# Altium integrated library NSC Switcher.IntLib: 916 symbols (part 17 of 23)
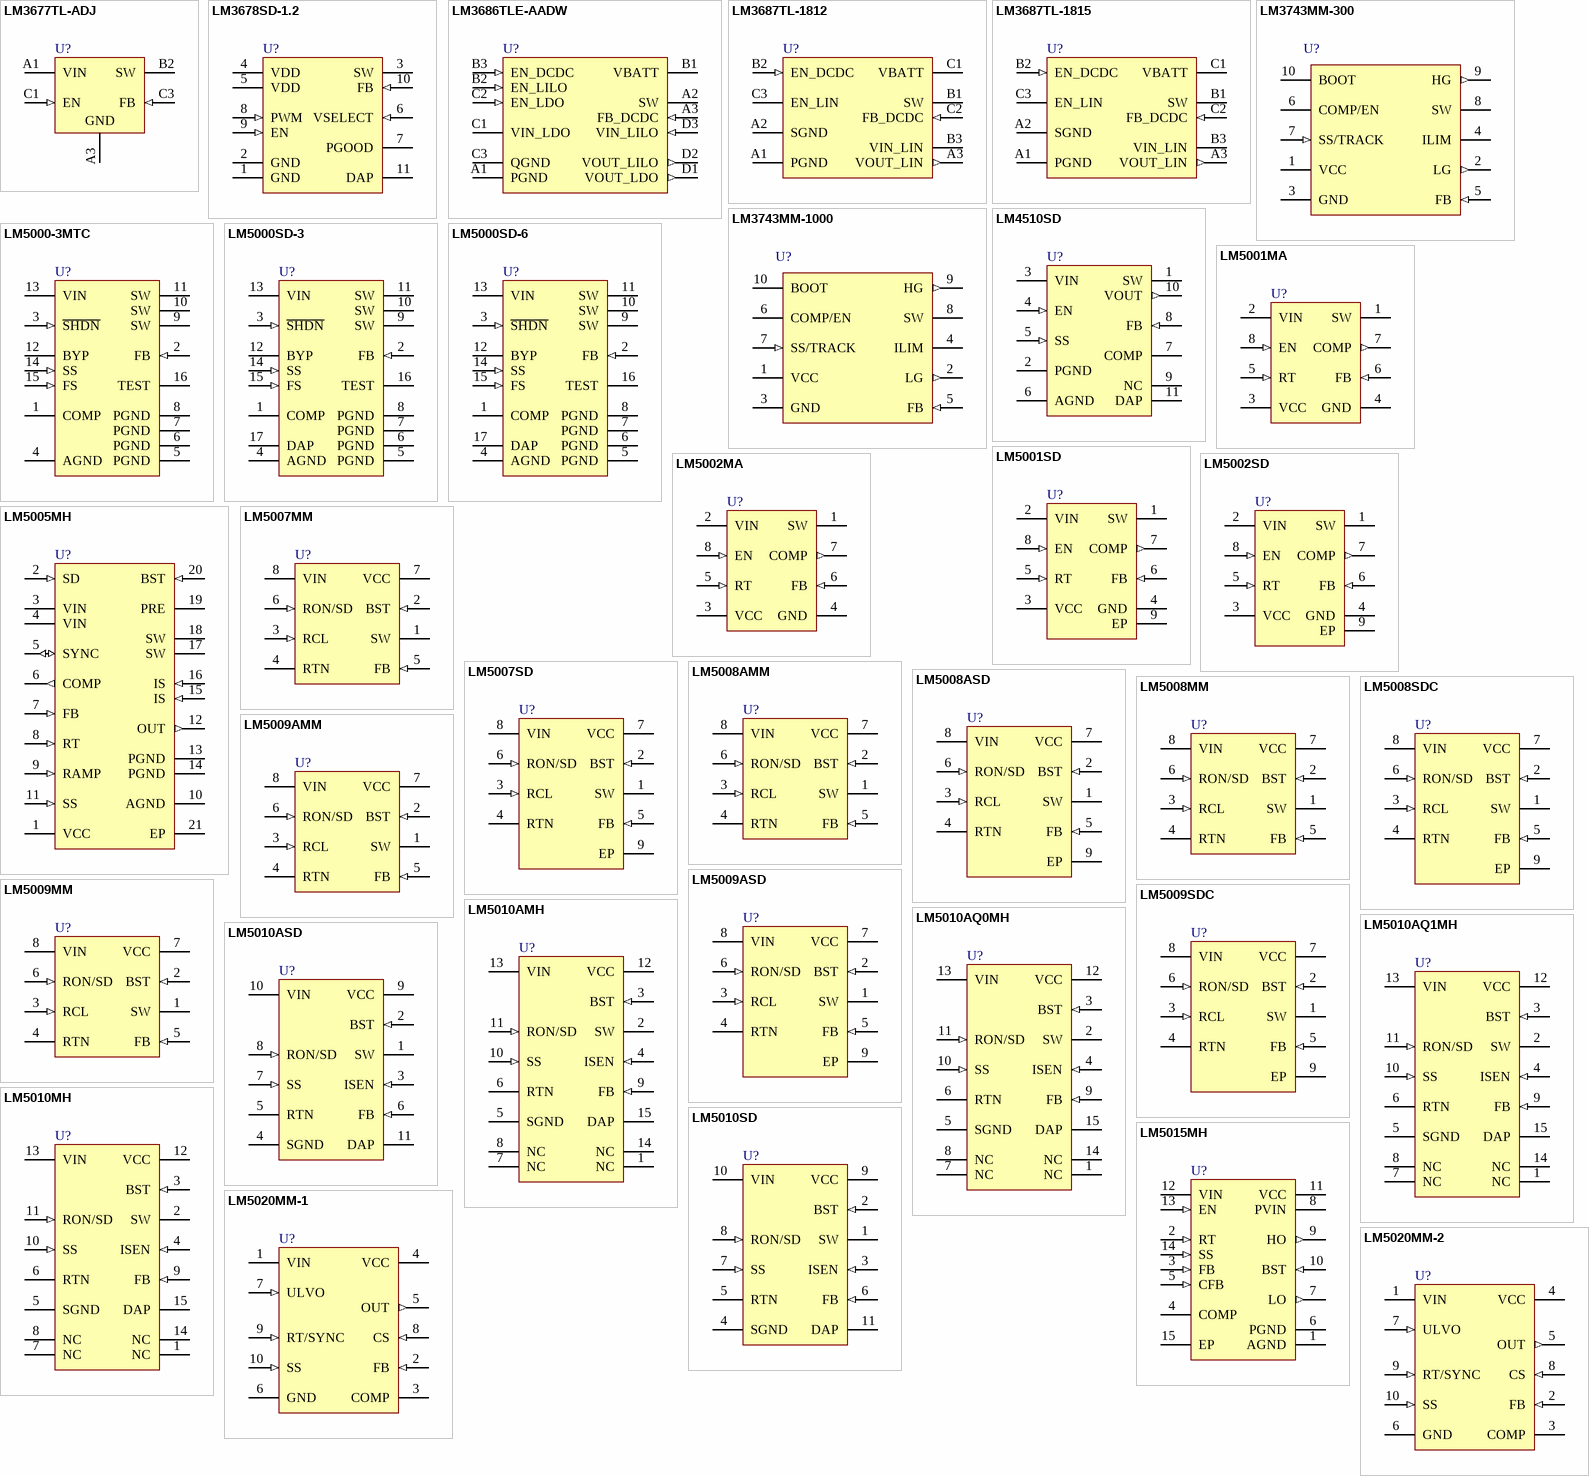
[diagram p44: symbols LM3677TL-ADJ to LM5020MM-2]

## LM5001MA
designator U?
High Voltage Switch Mode Regulator; PartNumber: LM5001MA; Manufacturer: National Semiconductor; CompType: Switcher; PackageTopMarking: NSZXTT*L5001*MA; Published: 4-Dec-2008; DatasheetVersion: Nov-2007; PackageVersion: revL, Sep-2006; PackageReference: M08A; Publisher: Altium Limited; PackageDescription: SOIC Narrow, 4.9 x 3.9 x 1.45mm, 8 Lead, 1.27mm Pitch; RoHS: Y; PinCount: 8; DigiKeyPartNumber: LM5001MA-ND; Code_JEDEC: MS-012-AA; Code_IPC: SOIC127P600-8; ComponentLink1Description: LM5001 Datasheet; ComponentLink1URL: http://www.national.com/ds/LM/LM5001.pdf; ComponentLink2Description: LM5001 Web Page; ComponentLink2URL: http://www.national.com/pf/LM/LM5001.html; ComponentLink3Description: M08A Package Drawing; ComponentLink3URL: http://www.national.com/packaging/folders/m08a.html
footprint M08A_N (SOIC, 8-Leads, Body 4.9x3.9mm, Pitch 1.27mm, IPC Medium Density)
footprint M08A_L (SOIC, 8-Leads, Body 4.9x3.9mm, Pitch 1.27mm, IPC High Density)
footprint M08A_M (SOIC, 8-Leads, Body 4.9x3.9mm, Pitch 1.27mm, IPC Low Density)
pins: 1 SW (power), 2 VIN (power), 3 VCC (power), 4 GND (power), 5 RT (in), 6 FB (in), 7 COMP (out), 8 EN (in)

## LM5001SD
designator U?
High Voltage Switch Mode Regulator; PartNumber: LM5001SD; Manufacturer: National Semiconductor; CompType: Switcher; PackageTopMarking: NS*UZXYTT*LM5001; Published: 4-Dec-2008; DatasheetVersion: Nov-2007; PackageVersion: revA, Jun-2003; PackageReference: SDC08A; Publisher: Altium Limited; PackageDescription: LLP, Plastic, Dual, 4 x 4 x 0.8mm Body, 8 Lead, 0.8mm Pitch, No Pullback; RoHS: Y; PinCount: 8; DigiKeyPartNumber: LM5001SDCT-ND; ComponentLink1Description: LM5001 Datasheet; ComponentLink1URL: http://www.national.com/ds/LM/LM5001.pdf; ComponentLink2Description: LM5001 Web Page; ComponentLink2URL: http://www.national.com/pf/LM/LM5001.html; ComponentLink3Description: SDC08A Package Drawing; ComponentLink3URL: http://www.national.com/packaging/folders/sdc08a.html
footprint SDC08A (SON, 8-Leads, Body 4x4mm, Pitch 0.8mm, NSC Recommended)
pins: 1 SW (power), 2 VIN (power), 3 VCC (power), 4 GND (power), 5 RT (in), 6 FB (in), 7 COMP (out), 8 EN (in), 9 EP (power)

## LM5002MA
designator U?
High Voltage Switch Mode Regulator; PartNumber: LM5002MA; Manufacturer: National Semiconductor; CompType: Switcher; PackageTopMarking: NSZXTT*L5002*MA; Published: 4-Dec-2008; DatasheetVersion: May-2007; PackageVersion: revL, Sep-2006; PackageReference: M08A; Publisher: Altium Limited; PackageDescription: SOIC Narrow, 4.9 x 3.9 x 1.45mm, 8 Lead, 1.27mm Pitch; RoHS: Y; PinCount: 8; DigiKeyPartNumber: LM5002MA-ND; Code_JEDEC: MS-012-AA; Code_IPC: SOIC127P600-8; ComponentLink1Description: LM5002 Datasheet; ComponentLink1URL: http://www.national.com/ds/LM/LM5002.pdf; ComponentLink2Description: LM5002 Web Page; ComponentLink2URL: http://www.national.com/pf/LM/LM5002.html; ComponentLink3Description: M08A Package Drawing; ComponentLink3URL: http://www.national.com/packaging/folders/m08a.html
footprint M08A_N (SOIC, 8-Leads, Body 4.9x3.9mm, Pitch 1.27mm, IPC Medium Density)
footprint M08A_L (SOIC, 8-Leads, Body 4.9x3.9mm, Pitch 1.27mm, IPC High Density)
footprint M08A_M (SOIC, 8-Leads, Body 4.9x3.9mm, Pitch 1.27mm, IPC Low Density)
pins: 1 SW (power), 2 VIN (power), 3 VCC (power), 4 GND (power), 5 RT (in), 6 FB (in), 7 COMP (out), 8 EN (in)

## LM5002SD
designator U?
High Voltage Switch Mode Regulator; PartNumber: LM5002SD; Manufacturer: National Semiconductor; CompType: Switcher; PackageTopMarking: NS*UZXYTT*LM5002; Published: 4-Dec-2008; DatasheetVersion: May-2007; PackageVersion: revA, Jun-2003; PackageReference: SDC08A; Publisher: Altium Limited; PackageDescription: LLP, Plastic, Dual, 4 x 4 x 0.8mm Body, 8 Lead, 0.8mm Pitch, No Pullback; RoHS: Y; PinCount: 8; DigiKeyPartNumber: LM5002SDCT-ND; ComponentLink1Description: LM5002 Datasheet; ComponentLink1URL: http://www.national.com/ds/LM/LM5002.pdf; ComponentLink2Description: LM5002 Web Page; ComponentLink2URL: http://www.national.com/pf/LM/LM5002.html; ComponentLink3Description: SDC08A Package Drawing; ComponentLink3URL: http://www.national.com/packaging/folders/sdc08a.html
footprint SDC08A (SON, 8-Leads, Body 4x4mm, Pitch 0.8mm, NSC Recommended)
pins: 1 SW (power), 2 VIN (power), 3 VCC (power), 4 GND (power), 5 RT (in), 6 FB (in), 7 COMP (out), 8 EN (in), 9 EP (power)

## LM5005MH
designator U?
High Voltage 2.5 Amp Buck Regulator; PartNumber: LM5005MH; Manufacturer: National Semiconductor; CompType: Switcher; PackageTopMarking: NSUZXYTT*LM5005*MH; Published: 4-Dec-2008; DatasheetVersion: Mar-2006; PackageVersion: revC, Jul-2006; PackageReference: MXA20A; Publisher: Altium Limited; PackageDescription: Molded TSSOP, Jedec, 6.5 x 4.4 x 0.9mm Body, 20 Lead, 0.65mm Pitch, Exposed Pad; RoHS: O; PinCount: 20; DigiKeyPartNumber: LM5005MH-ND; Code_JEDEC: MO-153-ACT; ComponentLink1Description: LM5005 Datasheet; ComponentLink1URL: http://www.national.com/ds/LM/LM5005.pdf; ComponentLink2Description: LM5005 Web Page; ComponentLink2URL: http://www.national.com/pf/LM/LM5005.html; ComponentLink3Description: MXA20A Package Drawing; ComponentLink3URL: http://www.national.com/packaging/folders/mxa20a.html
footprint MXA20A_N (TSOP, 20-Leads, Body 6.5x4.4mm, Pitch 0.65mm, Exposed Pad, IPC Medium Density)
footprint MXA20A_L (TSOP, 20-Leads, Body 6.5x4.4mm, Pitch 0.65mm, Exposed Pad, IPC High Density)
footprint MXA20A_M (TSOP, 20-Leads, Body 6.5x4.4mm, Pitch 0.65mm, Exposed Pad, IPC Low Density)
pins: 1 VCC (power), 2 SD (in), 3 VIN (power), 4 VIN (power), 5 SYNC (io), 6 COMP (out), 7 FB (in), 8 RT (in), 9 RAMP (in), 10 AGND (power), 11 SS (in), 12 OUT (out), 13 PGND (power), 14 PGND (power), 15 IS (in), 16 IS (in), 17 SW (power), 18 SW (power), 19 PRE (oc), 20 BST (in), 21 EP (power)

## LM5007MM
designator U?
High Voltage (80V) Step Down Switching Regulator; PartNumber: LM5007MM; Manufacturer: National Semiconductor; CompType: Switcher; PackageTopMarking: ZXTT*S81B; Published: 4-Dec-2008; DatasheetVersion: Feb-2008; PackageVersion: revF, Apr-2008; PackageReference: MUA08A; Publisher: Altium Limited; PackageDescription: MINI SOIC, .118 x .118 x .034in, 8 Lead, .0256in Pitch; RoHS: O; PinCount: 8; DigiKeyPartNumber: LM5007MMCT-ND; Code_JEDEC: MO-187-AA; ComponentLink1Description: LM5007 Datasheet; ComponentLink1URL: http://www.national.com/ds/LM/LM5007.pdf; ComponentLink2Description: LM5007 Web Page; ComponentLink2URL: http://www.national.com/pf/LM/LM5007.html; ComponentLink3Description: MUA08A Package Drawing; ComponentLink3URL: http://www.national.com/packaging/folders/mua08a.html
footprint MUA08A_N (TSOP, 8-Leads, Body 3x3mm, Pitch 0.65mm, IPC Medium Density)
footprint MUA08A_L (TSOP, 8-Leads, Body 3x3mm, Pitch 0.65mm, IPC High Density)
footprint MUA08A_M (TSOP, 8-Leads, Body 3x3mm, Pitch 0.65mm, IPC Low Density)
pins: 1 SW (power), 2 BST (in), 3 RCL (in), 4 RTN (power), 5 FB (in), 6 RON/SD (in), 7 VCC (power), 8 VIN (power)

## LM5007SD
designator U?
High Voltage (80V) Step Down Switching Regulator; PartNumber: LM5007SD; Manufacturer: National Semiconductor; CompType: Switcher; PackageTopMarking: NS*UZXYTT*L00031B; Published: 4-Dec-2008; DatasheetVersion: Feb-2008; PackageVersion: revA, Jun-2003; PackageReference: SDC08A; Publisher: Altium Limited; PackageDescription: LLP, Plastic, Dual, 4 x 4 x 0.8mm Body, 8 Lead, 0.8mm Pitch, No Pullback; RoHS: O; PinCount: 8; DigiKeyPartNumber: LM5007SDCT-ND; ComponentLink1Description: LM5007 Datasheet; ComponentLink1URL: http://www.national.com/ds/LM/LM5007.pdf; ComponentLink2Description: LM5007 Web Page; ComponentLink2URL: http://www.national.com/pf/LM/LM5007.html; ComponentLink3Description: SDC08A Package Drawing; ComponentLink3URL: http://www.national.com/packaging/folders/sdc08a.html
footprint SDC08A (SON, 8-Leads, Body 4x4mm, Pitch 0.8mm, NSC Recommended)
pins: 1 SW (power), 2 BST (in), 3 RCL (in), 4 RTN (power), 5 FB (in), 6 RON/SD (in), 7 VCC (power), 8 VIN (power), 9 EP (power)

## LM5008AMM
designator U?
High Voltage (100V) Step Down Switching Regulator, MSOP-8; PartNumber: LM5008AMM; Manufacturer: National Semiconductor; CompType: Switcher; PackageTopMarking: ZXTT*SAYA; PowerWise: N; Published: 9-Oct-2009; DatasheetVersion: Apr-2009; PackageVersion: revF, Apr-2008; PackageReference: MUA08A; Publisher: Altium Limited; PackageDescription: MINI SOIC, .118 x .118 x .034in, 8 Lead, .0256in Pitch; RoHS: Y; PinCount: 8; DigiKeyPartNumber: LM5008AMMCT-ND; Code_JEDEC: MO-187-AA; ComponentLink1Description: LM5008 Datasheet; ComponentLink1URL: http://www.national.com/ds/LM/LM5008A.pdf; ComponentLink2Description: LM5008 Web Page; ComponentLink2URL: http://www.national.com/pf/LM/LM5008.html; ComponentLink3Description: MUA08A Package Page; ComponentLink3URL: http://www.national.com/packaging/folders/mua08a.html
footprint MUA08A_N (TSOP, 8-Leads, Body 3x3mm, Pitch 0.65mm, IPC Medium Density)
footprint MUA08A_L (TSOP, 8-Leads, Body 3x3mm, Pitch 0.65mm, IPC High Density)
footprint MUA08A_M (TSOP, 8-Leads, Body 3x3mm, Pitch 0.65mm, IPC Low Density)
pins: 1 SW (power), 2 BST (in), 3 RCL (in), 4 RTN (power), 5 FB (in), 6 RON/SD (in), 7 VCC (power), 8 VIN (power)

## LM5008ASD
designator U?
High Voltage (100V) Step Down Switching Regulator, LLP-8; PartNumber: LM5008ASD; Manufacturer: National Semiconductor; CompType: Switcher; PackageTopMarking: NS*UZXYTT*L00070A; PowerWise: N; Published: 9-Oct-2009; DatasheetVersion: Apr-2009; PackageVersion: revA, Mar-2006; PackageReference: SDC08B; Publisher: Altium Limited; PackageDescription: LLP, Dual, 4 x 4 x 0.8mm Body, 8 Lead, 0.8mm Pitch, No Pullback, 1.98 x 3mm Exposed Pad; RoHS: Y; PinCount: 8; DigiKeyPartNumber: LM5008ASDCT-ND; ComponentLink1Description: LM5008 Datasheet; ComponentLink1URL: http://www.national.com/ds/LM/LM5008A.pdf; ComponentLink2Description: LM5008 Web Page; ComponentLink2URL: http://www.national.com/pf/LM/LM5008.html; ComponentLink3Description: SDC08B Package Page; ComponentLink3URL: http://www.national.com/packaging/folders/sdc08b.html
footprint SDC08B (SON, 8-Leads, Body 4x4mm, Pitch 0.8mm, NSC Recommended)
pins: 1 SW (power), 2 BST (in), 3 RCL (in), 4 RTN (power), 5 FB (in), 6 RON/SD (in), 7 VCC (power), 8 VIN (power), 9 EP (power)

## LM5008MM
designator U?
High Voltage (100V) Step Down Switching Regulator, MSOP-8; PartNumber: LM5008MM; Manufacturer: National Semiconductor; CompType: Switcher; PackageTopMarking: ZXTT*SAYB; Published: 4-Dec-2008; LatestRevisionDate: 09-Oct-2009; LatestRevisionNote: pin 6 re-named.; DatasheetVersion: Apr-2009; PackageVersion: revF, Apr-2008; PackageReference: MUA08A; Publisher: Altium Limited; PackageDescription: MINI SOIC, .118 x .118 x .034in, 8 Lead, .0256in Pitch; RoHS: O; PinCount: 8; DigiKeyPartNumber: LM5008MMCT-ND; Code_JEDEC: MO-187-AA; ComponentLink1Description: LM5008 Datasheet; ComponentLink1URL: http://www.national.com/ds/LM/LM5008.pdf; ComponentLink2Description: LM5008 Web Page; ComponentLink2URL: http://www.national.com/pf/LM/LM5008.html; ComponentLink3Description: MUA08A Package Drawing; ComponentLink3URL: http://www.national.com/packaging/folders/mua08a.html
footprint MUA08A_N (TSOP, 8-Leads, Body 3x3mm, Pitch 0.65mm, IPC Medium Density)
footprint MUA08A_L (TSOP, 8-Leads, Body 3x3mm, Pitch 0.65mm, IPC High Density)
footprint MUA08A_M (TSOP, 8-Leads, Body 3x3mm, Pitch 0.65mm, IPC Low Density)
pins: 1 SW (power), 2 BST (in), 3 RCL (in), 4 RTN (power), 5 FB (in), 6 RON/SD (in), 7 VCC (power), 8 VIN (power)

## LM5008SDC
designator U?
High Voltage (100V) Step Down Switching Regulator, LLP-8; PartNumber: LM5008SDC; Manufacturer: National Semiconductor; CompType: Switcher; PackageTopMarking: NS*UZXYTT*L5008SD; Published: 4-Dec-2008; LatestRevisionDate: 09-Oct-2009; LatestRevisionNote: pin 6 re-named.; DatasheetVersion: Apr-2009; PackageVersion: revA, Mar-2006; PackageReference: SDC08B; Publisher: Altium Limited; PackageDescription: LLP, Dual, 4 x 4 x 0.8mm Body, 8 Lead, 0.8mm Pitch, No Pullback, 1.98 x 3mm Exposed Pad; RoHS: Y; PinCount: 8; DigiKeyPartNumber: LM5008SDCCT-ND; ComponentLink1Description: LM5008 Datasheet; ComponentLink1URL: http://www.national.com/ds/LM/LM5008.pdf; ComponentLink2Description: LM5008 Web Page; ComponentLink2URL: http://www.national.com/pf/LM/LM5008.html; ComponentLink3Description: SDC08B Package Drawing; ComponentLink3URL: http://www.national.com/packaging/folders/sdc08b.html
footprint SDC08B (SON, 8-Leads, Body 4x4mm, Pitch 0.8mm, NSC Recommended)
pins: 1 SW (power), 2 BST (in), 3 RCL (in), 4 RTN (power), 5 FB (in), 6 RON/SD (in), 7 VCC (power), 8 VIN (power), 9 EP (power)

## LM5009AMM
designator U?
150 mA, 100V Step-Down Switching Regulator, MSOP-8; PartNumber: LM5009AMM; Manufacturer: National Semiconductor; CompType: Switcher; PackageTopMarking: ZXTT*SLLA; PowerWise: Y; Published: 9-Oct-2009; DatasheetVersion: Feb-2008; PackageVersion: revF, Apr-2008; PackageReference: MUA08A; Publisher: Altium Limited; PackageDescription: MINI SOIC, .118 x .118 x .034in, 8 Lead, .0256in Pitch; RoHS: Y; PinCount: 8; DigiKeyPartNumber: LM5009AMMCT-ND; Code_JEDEC: MO-187-AA; ComponentLink1Description: LM5009 Datasheet; ComponentLink1URL: http://www.national.com/ds/LM/LM5009A.pdf; ComponentLink2Description: LM5009 Web Page; ComponentLink2URL: http://www.national.com/pf/LM/LM5009.html; ComponentLink3Description: MUA08A Package Page; ComponentLink3URL: http://www.national.com/packaging/folders/mua08a.html
footprint MUA08A_N (TSOP, 8-Leads, Body 3x3mm, Pitch 0.65mm, IPC Medium Density)
footprint MUA08A_L (TSOP, 8-Leads, Body 3x3mm, Pitch 0.65mm, IPC High Density)
footprint MUA08A_M (TSOP, 8-Leads, Body 3x3mm, Pitch 0.65mm, IPC Low Density)
pins: 1 SW (power), 2 BST (in), 3 RCL (in), 4 RTN (power), 5 FB (in), 6 RON/SD (in), 7 VCC (power), 8 VIN (power)

## LM5009ASD
designator U?
150 mA, 100V Step-Down Switching Regulatorr, LLP-8; PartNumber: LM5009ASD; Manufacturer: National Semiconductor; CompType: Switcher; PackageTopMarking: NS*UZXYTT*5009ASD; PowerWise: Y; Published: 9-Oct-2009; DatasheetVersion: Feb-2008; PackageVersion: revA, Mar-2006; PackageReference: SDC08B; Publisher: Altium Limited; PackageDescription: LLP, Dual, 4 x 4 x 0.8mm Body, 8 Lead, 0.8mm Pitch, No Pullback, 1.98 x 3mm Exposed Pad; RoHS: Y; PinCount: 8; DigiKeyPartNumber: LM5009ASDCT-ND; ComponentLink1Description: LM5009 Datasheet; ComponentLink1URL: http://www.national.com/ds/LM/LM5009A.pdf; ComponentLink2Description: LM5009 Web Page; ComponentLink2URL: http://www.national.com/pf/LM/LM5009.html; ComponentLink3Description: SDC08B Package Page; ComponentLink3URL: http://www.national.com/packaging/folders/sdc08b.html
footprint SDC08B (SON, 8-Leads, Body 4x4mm, Pitch 0.8mm, NSC Recommended)
pins: 1 SW (power), 2 BST (in), 3 RCL (in), 4 RTN (power), 5 FB (in), 6 RON/SD (in), 7 VCC (power), 8 VIN (power), 9 EP (power)

## LM5009MM
designator U?
150 mA, 100V  Step-Down Switching Regulator, MSOP-8; PartNumber: LM5009MM; Manufacturer: National Semiconductor; CompType: Switcher; PackageTopMarking: ZXTT*SLLB; Published: 4-Dec-2008; LatestRevisionDate: 09-Oct-2009; LatestRevisionNote: pin 6 re-named.; DatasheetVersion: Feb-2008; PackageVersion: revF, Apr-2008; PackageReference: MUA08A; Publisher: Altium Limited; PackageDescription: MINI SOIC, .118 x .118 x .034in, 8 Lead, .0256in Pitch; RoHS: O; PinCount: 8; DigiKeyPartNumber: LM5009MMCT-ND; Code_JEDEC: MO-187-AA; ComponentLink1Description: LM5009 Datasheet; ComponentLink1URL: http://www.national.com/ds/LM/LM5009.pdf; ComponentLink2Description: LM5009 Web Page; ComponentLink2URL: http://www.national.com/pf/LM/LM5009.html; ComponentLink3Description: MUA08A Package Drawing; ComponentLink3URL: http://www.national.com/packaging/folders/mua08a.html
footprint MUA08A_N (TSOP, 8-Leads, Body 3x3mm, Pitch 0.65mm, IPC Medium Density)
footprint MUA08A_L (TSOP, 8-Leads, Body 3x3mm, Pitch 0.65mm, IPC High Density)
footprint MUA08A_M (TSOP, 8-Leads, Body 3x3mm, Pitch 0.65mm, IPC Low Density)
pins: 1 SW (power), 2 BST (in), 3 RCL (in), 4 RTN (power), 5 FB (in), 6 RON/SD (in), 7 VCC (power), 8 VIN (power)

## LM5009SDC
designator U?
150 mA, 100V  Step-Down Switching Regulatorr, LLP-8; PartNumber: LM5009SDC; Manufacturer: National Semiconductor; CompType: Switcher; PackageTopMarking: NS*UZXYTT*5009SD; Published: 4-Dec-2008; LatestRevisionDate: 09-Oct-2009; LatestRevisionNote: pin 6 re-named.; DatasheetVersion: Feb-2008; PackageVersion: revA, Mar-2006; PackageReference: SDC08B; Publisher: Altium Limited; PackageDescription: LLP, Dual, 4 x 4 x 0.8mm Body, 8 Lead, 0.8mm Pitch, No Pullback, 1.98 x 3mm Exposed Pad; RoHS: Y; PinCount: 8; DigiKeyPartNumber: LM5009SDCCT-ND; ComponentLink1Description: LM5009 Datasheet; ComponentLink1URL: http://www.national.com/ds/LM/LM5009.pdf; ComponentLink2Description: LM5009 Web Page; ComponentLink2URL: http://www.national.com/pf/LM/LM5009.html; ComponentLink3Description: SDC08B Package Drawing; ComponentLink3URL: http://www.national.com/packaging/folders/sdc08b.html
footprint SDC08B (SON, 8-Leads, Body 4x4mm, Pitch 0.8mm, NSC Recommended)
pins: 1 SW (power), 2 BST (in), 3 RCL (in), 4 RTN (power), 5 FB (in), 6 RON/SD (in), 7 VCC (power), 8 VIN (power), 9 EP (power)

## LM5010AMH
designator U?
High Voltage 1A Step Down Switching Regulator; PartNumber: LM5010AMH; Manufacturer: National Semiconductor; CompType: Switcher; PackageTopMarking: NSUZXYTT*L5010*AMH; Published: 4-Dec-2008; DatasheetVersion: Dec-2008; PackageVersion: revA, Feb-2003; PackageReference: MXA14A; Publisher: Altium Limited; PackageDescription: Molded TSSOP, JEDEC, Exposed Pad, 5.0 x 4.4 x 0.9mm Body, 14 Lead, 0.65mm Pitch; RoHS: Y; PinCount: 14; DigiKeyPartNumber: LM5010AMH-ND; Code_JEDEC: MO-153-ABT-1; ComponentLink1Description: LM5010A Datasheet; ComponentLink1URL: http://www.national.com/ds/LM/LM5010A.pdf; ComponentLink2Description: LM5010A Web Page; ComponentLink2URL: http://www.national.com/pf/LM/LM5010A.html; ComponentLink3Description: MXA14A Package Drawing; ComponentLink3URL: http://www.national.com/packaging/folders/mxa14a.html
footprint MXA14A_N (TSOP, 14-Leads, Body 5x4.4mm, Pitch 0.65mm, Exposed Pad, IPC Medium Density)
footprint MXA14A_L (TSOP, 14-Leads, Body 5x4.4mm, Pitch 0.65mm, Exposed Pad, IPC High Density)
footprint MXA14A_M (TSOP, 14-Leads, Body 5x4.4mm, Pitch 0.65mm, Exposed Pad, IPC Low Density)
pins: 1 NC, 2 SW (power), 3 BST (in), 4 ISEN (in), 5 SGND (power), 6 RTN (power), 7 NC, 8 NC, 9 FB (in), 10 SS (in), 11 RON/SD (in), 12 VCC (power), 13 VIN (power), 14 NC, 15 DAP (power)

## LM5010AQ0MH
designator U?
High Voltage 1A Step Down Switching Regulator; PartNumber: LM5010AQ0MH; Manufacturer: National Semiconductor; CompType: Switcher; PackageTopMarking: NSUZXYTT*L5010A*Q0MH; PowerWise: N; Published: 29-May-2009; DatasheetVersion: Dec-2008; PackageVersion: revA, Feb-2003; PackageReference: MXA14A; Publisher: Altium Limited; PackageDescription: Molded TSSOP, JEDEC, Exposed Pad, 5.0 x 4.4 x 0.9mm Body, 14 Lead, 0.65mm Pitch; RoHS: Y; PinCount: 14; DigiKeyPartNumber: LM5010AQ0MH-ND; Code_JEDEC: MO-153-ABT-1; ComponentLink1Description: LM5010A Datasheet; ComponentLink1URL: http://www.national.com/ds/LM/LM5010A.pdf; ComponentLink2Description: LM5010A Web Page; ComponentLink2URL: http://www.national.com/pf/LM/LM5010A.html; ComponentLink3Description: MXA14A Package Page; ComponentLink3URL: http://www.national.com/packaging/folders/mxa14a.html
footprint MXA14A_N (TSOP, 14-Leads, Body 5x4.4mm, Pitch 0.65mm, Exposed Pad, IPC Medium Density)
footprint MXA14A_L (TSOP, 14-Leads, Body 5x4.4mm, Pitch 0.65mm, Exposed Pad, IPC High Density)
footprint MXA14A_M (TSOP, 14-Leads, Body 5x4.4mm, Pitch 0.65mm, Exposed Pad, IPC Low Density)
pins: 1 NC, 2 SW (power), 3 BST (in), 4 ISEN (in), 5 SGND (power), 6 RTN (power), 7 NC, 8 NC, 9 FB (in), 10 SS (in), 11 RON/SD (in), 12 VCC (power), 13 VIN (power), 14 NC, 15 DAP (power)

## LM5010AQ1MH
designator U?
High Voltage 1A Step Down Switching Regulator; PartNumber: LM5010AQ1MH; Manufacturer: National Semiconductor; CompType: Switcher; PackageTopMarking: NSUZXYTT*L5010A*Q1MH; PowerWise: N; Published: 29-May-2009; DatasheetVersion: Dec-2008; PackageVersion: revA, Feb-2003; PackageReference: MXA14A; Publisher: Altium Limited; PackageDescription: Molded TSSOP, JEDEC, Exposed Pad, 5.0 x 4.4 x 0.9mm Body, 14 Lead, 0.65mm Pitch; RoHS: Y; PinCount: 14; DigiKeyPartNumber: LM5010AQ1MH-ND; Code_JEDEC: MO-153-ABT-1; ComponentLink1Description: LM5010A Datasheet; ComponentLink1URL: http://www.national.com/ds/LM/LM5010A.pdf; ComponentLink2Description: LM5010A Web Page; ComponentLink2URL: http://www.national.com/pf/LM/LM5010A.html; ComponentLink3Description: MXA14A Package Page; ComponentLink3URL: http://www.national.com/packaging/folders/mxa14a.html
footprint MXA14A_N (TSOP, 14-Leads, Body 5x4.4mm, Pitch 0.65mm, Exposed Pad, IPC Medium Density)
footprint MXA14A_L (TSOP, 14-Leads, Body 5x4.4mm, Pitch 0.65mm, Exposed Pad, IPC High Density)
footprint MXA14A_M (TSOP, 14-Leads, Body 5x4.4mm, Pitch 0.65mm, Exposed Pad, IPC Low Density)
pins: 1 NC, 2 SW (power), 3 BST (in), 4 ISEN (in), 5 SGND (power), 6 RTN (power), 7 NC, 8 NC, 9 FB (in), 10 SS (in), 11 RON/SD (in), 12 VCC (power), 13 VIN (power), 14 NC, 15 DAP (power)

## LM5010ASD
designator U?
High Voltage 1A Step Down Switching Regulator; PartNumber: LM5010ASD; Manufacturer: National Semiconductor; CompType: Switcher; PackageTopMarking: NS*UZXYTT*L00065B; Published: 4-Dec-2008; DatasheetVersion: Dec-2008; PackageVersion: revA, May-2003; PackageReference: SDC10A; Publisher: Altium Limited; PackageDescription: LLP, Plastic, Dual, 4 x 4 x 0.8mm Body, 10 Lead, 0.8mm Pitch, No Pullback; RoHS: O; PinCount: 10; DigiKeyPartNumber: LM5010ASDCT-ND; ComponentLink1Description: LM5010A Datasheet; ComponentLink1URL: http://www.national.com/ds/LM/LM5010A.pdf; ComponentLink2Description: LM5010A Web Page; ComponentLink2URL: http://www.national.com/pf/LM/LM5010A.html; ComponentLink3Description: SDC10A Package Drawing; ComponentLink3URL: http://www.national.com/packaging/folders/sdc10a.html
footprint SDC10A (SON, 10-Leads, Body 4x4 mm, Pitch 0.8mm, NSC Recommended)
pins: 1 SW (power), 2 BST (in), 3 ISEN (in), 4 SGND (power), 5 RTN (power), 6 FB (in), 7 SS (in), 8 RON/SD (in), 9 VCC (power), 10 VIN (power), 11 DAP (power)

## LM5010MH
designator U?
High Voltage 1A Step Down Switching Regulator; PartNumber: LM5010MH; Manufacturer: National Semiconductor; CompType: Switcher; PackageTopMarking: NSUZXYTT*L5010*MH; Published: 4-Dec-2008; DatasheetVersion: Feb-2008; PackageVersion: revA, Feb-2003; PackageReference: MXA14A; Publisher: Altium Limited; PackageDescription: Molded TSSOP, JEDEC, Exposed Pad, 5.0 x 4.4 x 0.9mm Body, 14 Lead, 0.65mm Pitch; RoHS: Y; PinCount: 14; DigiKeyPartNumber: LM5010MH-ND; Code_JEDEC: MO-153-ABT-1; ComponentLink1Description: LM5010 Datasheet; ComponentLink1URL: http://www.national.com/ds/LM/LM5010.pdf; ComponentLink2Description: LM5010 Web Page; ComponentLink2URL: http://www.national.com/pf/LM/LM5010.html; ComponentLink3Description: MXA14A Package Drawing; ComponentLink3URL: http://www.national.com/packaging/folders/mxa14a.html
footprint MXA14A_N (TSOP, 14-Leads, Body 5x4.4mm, Pitch 0.65mm, Exposed Pad, IPC Medium Density)
footprint MXA14A_L (TSOP, 14-Leads, Body 5x4.4mm, Pitch 0.65mm, Exposed Pad, IPC High Density)
footprint MXA14A_M (TSOP, 14-Leads, Body 5x4.4mm, Pitch 0.65mm, Exposed Pad, IPC Low Density)
pins: 1 NC, 2 SW (power), 3 BST (in), 4 ISEN (in), 5 SGND (power), 6 RTN (power), 7 NC, 8 NC, 9 FB (in), 10 SS (in), 11 RON/SD (in), 12 VCC (power), 13 VIN (power), 14 NC, 15 DAP (power)

## LM5010SD
designator U?
High Voltage 1A Step Down Switching Regulator; PartNumber: LM5010SD; Manufacturer: National Semiconductor; CompType: Switcher; PackageTopMarking: NS*UZXYTT*L00057B; Published: 4-Dec-2008; DatasheetVersion: Feb-2008; PackageVersion: revA, May-2003; PackageReference: SDC10A; Publisher: Altium Limited; PackageDescription: LLP, Plastic, Dual, 4 x 4 x 0.8mm Body, 10 Lead, 0.8mm Pitch, No Pullback; RoHS: O; PinCount: 10; DigiKeyPartNumber: LM5010SDCT-ND; ComponentLink1Description: LM5010 Datasheet; ComponentLink1URL: http://www.national.com/ds/LM/LM5010.pdf; ComponentLink2Description: LM5010 Web Page; ComponentLink2URL: http://www.national.com/pf/LM/LM5010.html; ComponentLink3Description: SDC10A Package Drawing; ComponentLink3URL: http://www.national.com/packaging/folders/sdc10a.html
footprint SDC10A (SON, 10-Leads, Body 4x4 mm, Pitch 0.8mm, NSC Recommended)
pins: 1 SW (power), 2 BST (in), 3 ISEN (in), 4 SGND (power), 5 RTN (power), 6 FB (in), 7 SS (in), 8 RON/SD (in), 9 VCC (power), 10 VIN (power), 11 DAP (power)

## LM5015MH
designator U?
High Voltage Monolithic Two-Switch Forward DC-DC Regulator; PartNumber: LM5015MH; Manufacturer: National Semiconductor; CompType: Switcher; PackageTopMarking: NSUZXYTT*LM5015*MH; Published: 4-Dec-2008; DatasheetVersion: Dec-2007; PackageVersion: revA, Feb-2003; PackageReference: MXA14A; Publisher: Altium Limited; PackageDescription: Molded TSSOP, JEDEC, Exposed Pad, 5.0 x 4.4 x 0.9mm Body, 14 Lead, 0.65mm Pitch; RoHS: Y; PinCount: 14; DigiKeyPartNumber: LM5015MH-ND; Code_JEDEC: MO-153-ABT-1; ComponentLink1Description: LM5015 Datasheet; ComponentLink1URL: http://www.national.com/ds/LM/LM5015.pdf; ComponentLink2Description: LM5015 Web Page; ComponentLink2URL: http://www.national.com/pf/LM/LM5015.html; ComponentLink3Description: MXA14A Package Drawing; ComponentLink3URL: http://www.national.com/packaging/folders/mxa14a.html
footprint MXA14A_N (TSOP, 14-Leads, Body 5x4.4mm, Pitch 0.65mm, Exposed Pad, IPC Medium Density)
footprint MXA14A_L (TSOP, 14-Leads, Body 5x4.4mm, Pitch 0.65mm, Exposed Pad, IPC High Density)
footprint MXA14A_M (TSOP, 14-Leads, Body 5x4.4mm, Pitch 0.65mm, Exposed Pad, IPC Low Density)
pins: 1 AGND (power), 2 RT (in), 3 FB (in), 4 COMP, 5 CFB (in), 6 PGND (power), 7 LO (out), 8 PVIN (power), 9 HO (out), 10 BST (in), 11 VCC (power), 12 VIN (power), 13 EN (in), 14 SS (in), 15 EP (power)

## LM5020MM-1
designator U?
100V Current Mode PWM Controller; PartNumber: LM5020MM-1; Manufacturer: National Semiconductor; CompType: Switcher; PackageTopMarking: ZXTT*SBLB; Published: 4-Dec-2008; DatasheetVersion: Apr-2006; PackageVersion: revB, Jul-2003; PackageReference: MUB10A; Publisher: Altium Limited; PackageDescription: Mini-SO, Molded, .118 x .118 x .034in Body, 10 Lead, .0197in Pitch; RoHS: O; PinCount: 10; DigiKeyPartNumber: LM5020MM-1CT-ND; Code_JEDEC: MO-187-BA; ComponentLink1Description: LM5020 Datasheet; ComponentLink1URL: http://www.national.com/ds/LM/LM5020.pdf; ComponentLink2Description: LM5020 Web Page; ComponentLink2URL: http://www.national.com/pf/LM/LM5020.html; ComponentLink3Description: MUB10A Package Drawing; ComponentLink3URL: http://www.national.com/packaging/folders/mub10a.html
footprint MUB10A_N (TSSOP, 10-Leads, Body 3x3mm, Pitch 0.5mm, IPC Medium Density)
footprint MUB10A_L (TSSOP, 10-Leads, Body 3x3mm, Pitch 0.5mm, IPC High Density)
footprint MUB10A_M (TSSOP, 10-Leads, Body 3x3mm, Pitch 0.5mm, IPC Low Density)
pins: 1 VIN (power), 2 FB (in), 3 COMP, 4 VCC (power), 5 OUT (out), 6 GND (power), 7 ULVO (in), 8 CS (in), 9 RT/SYNC (in), 10 SS (in)

## LM5020MM-2
designator U?
100V Current Mode PWM Controller; PartNumber: LM5020MM-2; Manufacturer: National Semiconductor; CompType: Switcher; PackageTopMarking: ZXTT*SBNB; Published: 4-Dec-2008; DatasheetVersion: Apr-2006; PackageVersion: revB, Jul-2003; PackageReference: MUB10A; Publisher: Altium Limited; PackageDescription: Mini-SO, Molded, .118 x .118 x .034in Body, 10 Lead, .0197in Pitch; RoHS: O; PinCount: 10; DigiKeyPartNumber: LM5020MM-2CT-ND; Code_JEDEC: MO-187-BA; ComponentLink1Description: LM5020 Datasheet; ComponentLink1URL: http://www.national.com/ds/LM/LM5020.pdf; ComponentLink2Description: LM5020 Web Page; ComponentLink2URL: http://www.national.com/pf/LM/LM5020.html; ComponentLink3Description: MUB10A Package Drawing; ComponentLink3URL: http://www.national.com/packaging/folders/mub10a.html
footprint MUB10A_N (TSSOP, 10-Leads, Body 3x3mm, Pitch 0.5mm, IPC Medium Density)
footprint MUB10A_L (TSSOP, 10-Leads, Body 3x3mm, Pitch 0.5mm, IPC High Density)
footprint MUB10A_M (TSSOP, 10-Leads, Body 3x3mm, Pitch 0.5mm, IPC Low Density)
pins: 1 VIN (power), 2 FB (in), 3 COMP, 4 VCC (power), 5 OUT (out), 6 GND (power), 7 ULVO (in), 8 CS (in), 9 RT/SYNC (in), 10 SS (in)

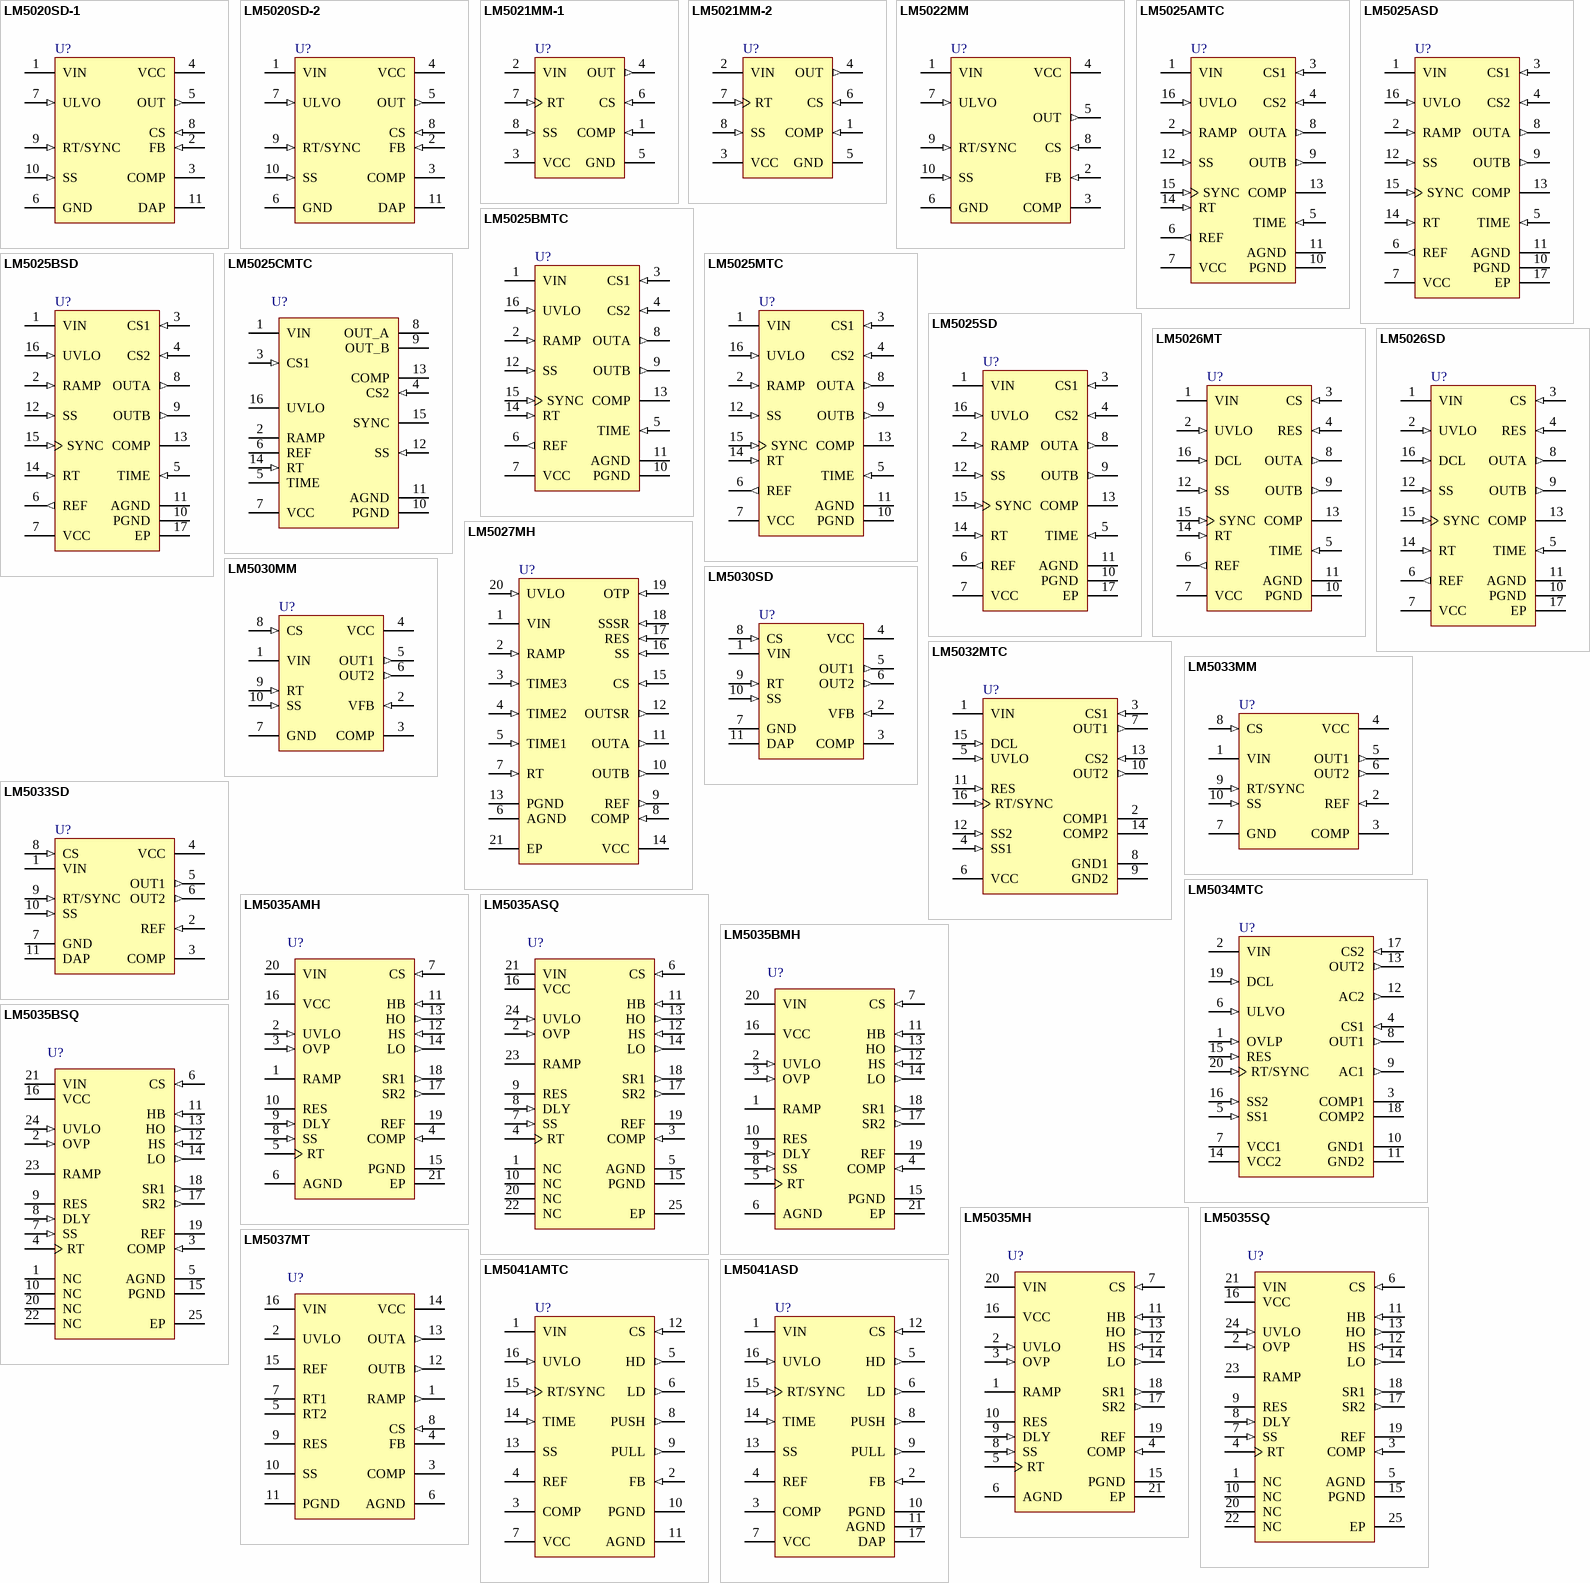
[diagram p20: symbols LM5020SD-1 to LM5041ASD]

## LM5020SD-1
designator U?
100V Current Mode PWM Controller; PartNumber: LM5020SD-1; Manufacturer: National Semiconductor; CompType: Switcher; PackageTopMarking: NS*UZXYTT*5020-1; Published: 4-Dec-2008; DatasheetVersion: Apr-2006; PackageVersion: revA, May-2003; PackageReference: SDC10A; Publisher: Altium Limited; PackageDescription: LLP, Plastic, Dual, 4 x 4 x 0.8mm Body, 10 Lead, 0.8mm Pitch, No Pullback; RoHS: Y; PinCount: 10; DigiKeyPartNumber: LM5020SD-1CT-ND; ComponentLink1Description: LM5020 Datasheet; ComponentLink1URL: http://www.national.com/ds/LM/LM5020.pdf; ComponentLink2Description: LM5020 Web Page; ComponentLink2URL: http://www.national.com/pf/LM/LM5020.html; ComponentLink3Description: SDC10A Package Drawing; ComponentLink3URL: http://www.national.com/packaging/folders/sdc10a.html
footprint SDC10A (SON, 10-Leads, Body 4x4 mm, Pitch 0.8mm, NSC Recommended)
pins: 1 VIN (power), 2 FB (in), 3 COMP, 4 VCC (power), 5 OUT (out), 6 GND (power), 7 ULVO (in), 8 CS (in), 9 RT/SYNC (in), 10 SS (in), 11 DAP (power)

## LM5020SD-2
designator U?
100V Current Mode PWM Controller; PartNumber: LM5020SD-2; Manufacturer: National Semiconductor; CompType: Switcher; PackageTopMarking: NS*UZXYTT*5020-2; Published: 4-Dec-2008; DatasheetVersion: Apr-2006; PackageVersion: revA, May-2003; PackageReference: SDC10A; Publisher: Altium Limited; PackageDescription: LLP, Plastic, Dual, 4 x 4 x 0.8mm Body, 10 Lead, 0.8mm Pitch, No Pullback; RoHS: Y; PinCount: 10; DigiKeyPartNumber: LM5020SD-2CT-ND; ComponentLink1Description: LM5020 Datasheet; ComponentLink1URL: http://www.national.com/ds/LM/LM5020.pdf; ComponentLink2Description: LM5020 Web Page; ComponentLink2URL: http://www.national.com/pf/LM/LM5020.html; ComponentLink3Description: SDC10A Package Drawing; ComponentLink3URL: http://www.national.com/packaging/folders/sdc10a.html
footprint SDC10A (SON, 10-Leads, Body 4x4 mm, Pitch 0.8mm, NSC Recommended)
pins: 1 VIN (power), 2 FB (in), 3 COMP, 4 VCC (power), 5 OUT (out), 6 GND (power), 7 ULVO (in), 8 CS (in), 9 RT/SYNC (in), 10 SS (in), 11 DAP (power)

## LM5021MM-1
designator U?
AC-DC Current Mode PWM Controller; PartNumber: LM5021MM-1; Manufacturer: National Semiconductor; CompType: Switcher; PackageTopMarking: ZXTT*21-1; Published: 4-Dec-2008; DatasheetVersion: Jun-2006; PackageVersion: revF, Apr-2008; PackageReference: MUA08A; Publisher: Altium Limited; PackageDescription: MINI SOIC, .118 x .118 x .034in, 8 Lead, .0256in Pitch; RoHS: Y; PinCount: 8; DigiKeyPartNumber: LM5021MM-1CT-ND; Code_JEDEC: MO-187-AA; ComponentLink1Description: LM5021 Datasheet; ComponentLink1URL: http://www.national.com/ds/LM/LM5021.pdf; ComponentLink2Description: LM5021 Web Page; ComponentLink2URL: http://www.national.com/pf/LM/LM5021.html; ComponentLink3Description: MUA08A Package Drawing; ComponentLink3URL: http://www.national.com/packaging/folders/mua08a.html
footprint MUA08A_N (TSOP, 8-Leads, Body 3x3mm, Pitch 0.65mm, IPC Medium Density)
footprint MUA08A_L (TSOP, 8-Leads, Body 3x3mm, Pitch 0.65mm, IPC High Density)
footprint MUA08A_M (TSOP, 8-Leads, Body 3x3mm, Pitch 0.65mm, IPC Low Density)
pins: 1 COMP (in), 2 VIN (power), 3 VCC (power), 4 OUT (out), 5 GND (power), 6 CS (in), 7 RT (in), 8 SS (in)

## LM5021MM-2
designator U?
AC-DC Current Mode PWM Controller; PartNumber: LM5021MM-2; Manufacturer: National Semiconductor; CompType: Switcher; PackageTopMarking: ZXTT*21-2; Published: 4-Dec-2008; DatasheetVersion: Jun-2006; PackageVersion: revF, Apr-2008; PackageReference: MUA08A; Publisher: Altium Limited; PackageDescription: MINI SOIC, .118 x .118 x .034in, 8 Lead, .0256in Pitch; RoHS: Y; PinCount: 8; DigiKeyPartNumber: LM5021MM-2CT-ND; Code_JEDEC: MO-187-AA; ComponentLink1Description: LM5021 Datasheet; ComponentLink1URL: http://www.national.com/ds/LM/LM5021.pdf; ComponentLink2Description: LM5021 Web Page; ComponentLink2URL: http://www.national.com/pf/LM/LM5021.html; ComponentLink3Description: MUA08A Package Drawing; ComponentLink3URL: http://www.national.com/packaging/folders/mua08a.html
footprint MUA08A_N (TSOP, 8-Leads, Body 3x3mm, Pitch 0.65mm, IPC Medium Density)
footprint MUA08A_L (TSOP, 8-Leads, Body 3x3mm, Pitch 0.65mm, IPC High Density)
footprint MUA08A_M (TSOP, 8-Leads, Body 3x3mm, Pitch 0.65mm, IPC Low Density)
pins: 1 COMP (in), 2 VIN (power), 3 VCC (power), 4 OUT (out), 5 GND (power), 6 CS (in), 7 RT (in), 8 SS (in)

## LM5022MM
designator U?
60V Low Side  Controller for Boost and SEPIC; PartNumber: LM5022MM; Manufacturer: National Semiconductor; CompType: Switcher; PackageTopMarking: ZXTT*5022; Published: 4-Dec-2008; DatasheetVersion: Aug-2007; PackageVersion: revB, Jul-2003; PackageReference: MUB10A; Publisher: Altium Limited; PackageDescription: Mini-SO, Molded, .118 x .118 x .034in Body, 10 Lead, .0197in Pitch; RoHS: O; PinCount: 10; DigiKeyPartNumber: LM5022MMCT-ND; Code_JEDEC: MO-187-BA; ComponentLink1Description: LM5022 Datasheet; ComponentLink1URL: http://www.national.com/ds/LM/LM5022.pdf; ComponentLink2Description: LM5022 Web Page; ComponentLink2URL: http://www.national.com/pf/LM/LM5022.html; ComponentLink3Description: MUB10A Package Drawing; ComponentLink3URL: http://www.national.com/packaging/folders/mub10a.html
footprint MUB10A_N (TSSOP, 10-Leads, Body 3x3mm, Pitch 0.5mm, IPC Medium Density)
footprint MUB10A_L (TSSOP, 10-Leads, Body 3x3mm, Pitch 0.5mm, IPC High Density)
footprint MUB10A_M (TSSOP, 10-Leads, Body 3x3mm, Pitch 0.5mm, IPC Low Density)
pins: 1 VIN (power), 2 FB (in), 3 COMP, 4 VCC (power), 5 OUT (out), 6 GND (power), 7 ULVO (in), 8 CS (in), 9 RT/SYNC (in), 10 SS (in)

## LM5025AMTC
designator U?
Active Clamp Voltage Mode PWM Controller; PartNumber: LM5025AMTC; Manufacturer: National Semiconductor; CompType: Switcher; PackageTopMarking: NSUZXYTT*L5025A*MTC; Published: 4-Dec-2008; DatasheetVersion: Dec-2004; PackageVersion: revD, Jun-2003; PackageReference: MTC16; Publisher: Altium Limited; PackageDescription: Molded TSSOP, Jedec, 5 x 4.4 x 0.9mm Body, 16 Lead, 0.65mm Pitch; RoHS: Y; PinCount: 16; DigiKeyPartNumber: LM5025AMTC-ND; Code_JEDEC: MO-153-AB; ComponentLink1Description: LM5025A Datasheet; ComponentLink1URL: http://www.national.com/ds/LM/LM5025A.pdf; ComponentLink2Description: LM5025A Web Page; ComponentLink2URL: http://www.national.com/pf/LM/LM5025A.html; ComponentLink3Description: MTC16 Package Drawing; ComponentLink3URL: http://www.national.com/packaging/folders/mtc16.html
footprint MTC16_N (TSOP, 16-Leads, Body 5x4.4mm, Pitch 0.65mm, IPC Medium Density)
footprint MTC16_L (TSOP, 16-Leads, Body 5x4.4mm, Pitch 0.65mm, IPC High Density)
footprint MTC16_M (TSOP, 16-Leads, Body 5x4.4mm, Pitch 0.65mm, IPC Low Density)
pins: 1 VIN (power), 2 RAMP (in), 3 CS1 (in), 4 CS2 (in), 5 TIME (in), 6 REF (out), 7 VCC (power), 8 OUTA (out), 9 OUTB (out), 10 PGND (power), 11 AGND (power), 12 SS (in), 13 COMP, 14 RT (in), 15 SYNC (in), 16 UVLO (in)

## LM5025ASD
designator U?
Active Clamp Voltage Mode PWM Controller; PartNumber: LM5025ASD; Manufacturer: National Semiconductor; CompType: Switcher; PackageTopMarking: NS*UZXYTT*5025ASD; Published: 4-Dec-2008; DatasheetVersion: Dec-2004; PackageVersion: revA, May-2003; PackageReference: SDA16A; Publisher: Altium Limited; PackageDescription: LLP, Plastic, Dual, 5 x 5 x 0.8mm Body,16 Lead, 0.5mm Pitch, No Pullback; RoHS: Y; PinCount: 16; DigiKeyPartNumber: LM5025ASDCT-ND; ComponentLink1Description: LM5025A Datasheet; ComponentLink1URL: http://www.national.com/ds/LM/LM5025A.pdf; ComponentLink2Description: LM5025A Web Page; ComponentLink2URL: http://www.national.com/pf/LM/LM5025A.html; ComponentLink3Description: SDA16A Package Drawing; ComponentLink3URL: http://www.national.com/packaging/folders/sda16a.html
footprint SDA16A (SON, 16-Leads, Body 5x5mm, Pitch 0.5mm, NSC Recommended)
pins: 1 VIN (power), 2 RAMP (in), 3 CS1 (in), 4 CS2 (in), 5 TIME (in), 6 REF (out), 7 VCC (power), 8 OUTA (out), 9 OUTB (out), 10 PGND (power), 11 AGND (power), 12 SS (in), 13 COMP, 14 RT (in), 15 SYNC (in), 16 UVLO (in), 17 EP (power)

## LM5025BMTC
designator U?
Active Clamp Voltage Mode PWM Controller; PartNumber: LM5025BMTC; Manufacturer: National Semiconductor; CompType: Switcher; PackageTopMarking: NSUZXYTT*L5025B*MTC; Published: 4-Dec-2008; DatasheetVersion: Mar-2006; PackageVersion: revD, Jun-2003; PackageReference: MTC16; Publisher: Altium Limited; PackageDescription: Molded TSSOP, Jedec, 5 x 4.4 x 0.9mm Body, 16 Lead, 0.65mm Pitch; RoHS: Y; PinCount: 16; DigiKeyPartNumber: LM5025BMTC-ND; Code_JEDEC: MO-153-AB; ComponentLink1Description: LM5025B Datasheet; ComponentLink1URL: http://www.national.com/ds/LM/LM5025B.pdf; ComponentLink2Description: LM5025B Web Page; ComponentLink2URL: http://www.national.com/pf/LM/LM5025B.html; ComponentLink3Description: MTC16 Package Drawing; ComponentLink3URL: http://www.national.com/packaging/folders/mtc16.html
footprint MTC16_N (TSOP, 16-Leads, Body 5x4.4mm, Pitch 0.65mm, IPC Medium Density)
footprint MTC16_L (TSOP, 16-Leads, Body 5x4.4mm, Pitch 0.65mm, IPC High Density)
footprint MTC16_M (TSOP, 16-Leads, Body 5x4.4mm, Pitch 0.65mm, IPC Low Density)
pins: 1 VIN (power), 2 RAMP (in), 3 CS1 (in), 4 CS2 (in), 5 TIME (in), 6 REF (out), 7 VCC (power), 8 OUTA (out), 9 OUTB (out), 10 PGND (power), 11 AGND (power), 12 SS (in), 13 COMP, 14 RT (in), 15 SYNC (in), 16 UVLO (in)

## LM5025BSD
designator U?
Active Clamp Voltage Mode PWM Controller; PartNumber: LM5025BSD; Manufacturer: National Semiconductor; CompType: Switcher; PackageTopMarking: NS*UZXYTT*5025BSD; Published: 4-Dec-2008; DatasheetVersion: Mar-2006; PackageVersion: revA, May-2003; PackageReference: SDA16A; Publisher: Altium Limited; PackageDescription: LLP, Plastic, Dual, 5 x 5 x 0.8mm Body,16 Lead, 0.5mm Pitch, No Pullback; RoHS: O; PinCount: 16; DigiKeyPartNumber: LM5025BSDCT-ND; ComponentLink1Description: LM5025B Datasheet; ComponentLink1URL: http://www.national.com/ds/LM/LM5025B.pdf; ComponentLink2Description: LM5025B Web Page; ComponentLink2URL: http://www.national.com/pf/LM/LM5025B.html; ComponentLink3Description: SDA16A Package Drawing; ComponentLink3URL: http://www.national.com/packaging/folders/sda16a.html
footprint SDA16A (SON, 16-Leads, Body 5x5mm, Pitch 0.5mm, NSC Recommended)
pins: 1 VIN (power), 2 RAMP (in), 3 CS1 (in), 4 CS2 (in), 5 TIME (in), 6 REF (out), 7 VCC (power), 8 OUTA (out), 9 OUTB (out), 10 PGND (power), 11 AGND (power), 12 SS (in), 13 COMP, 14 RT (in), 15 SYNC (in), 16 UVLO (in), 17 EP (power)

## LM5025CMTC
designator U?
Active Clamp Voltage Mode PWM Controller; PartNumber: LM5025CMTC; Manufacturer: National Semiconductor; CompType: Switcher; PackageTopMarking: NSUZXYTT*L5025C*MTC; PowerWise: Y; Published: 4-Dec-2008; DatasheetVersion: Sep-2008; PackageVersion: revD, Jun-2003; PackageReference: MTC16; Publisher: Altium Limited; PackageDescription: Molded TSSOP, Jedec, 5 x 4.4 x 0.9mm Body, 16 Lead, 0.65mm Pitch; RoHS: Y; PinCount: 16; Code_JEDEC: MO-153-AB; ComponentLink1Description: LM5025C Datasheet; ComponentLink1URL: http://www.national.com/ds/LM/LM5025C.pdf; ComponentLink2Description: LM5025C Web Page; ComponentLink2URL: http://www.national.com/pf/LM/LM5025C.html; ComponentLink3Description: MTC16 Package Drawing; ComponentLink3URL: http://www.national.com/packaging/folders/mtc16.html
footprint MTC16_N (TSOP, 16-Leads, Body 5x4.4mm, Pitch 0.65mm, IPC Medium Density)
footprint MTC16_L (TSOP, 16-Leads, Body 5x4.4mm, Pitch 0.65mm, IPC High Density)
footprint MTC16_M (TSOP, 16-Leads, Body 5x4.4mm, Pitch 0.65mm, IPC Low Density)
pins: 1 VIN (power), 2 RAMP, 3 CS1 (in), 4 CS2 (in), 5 TIME, 6 REF (power), 7 VCC (power), 8 OUT_A (power), 9 OUT_B (power), 10 PGND (power), 11 AGND (power), 12 SS (in), 13 COMP, 14 RT (in), 15 SYNC, 16 UVLO

## LM5025MTC
designator U?
Active Clamp Voltage Mode PWM Controller; PartNumber: LM5025MTC; Manufacturer: National Semiconductor; CompType: Switcher; PackageTopMarking: NSZXYTT*LM5025*MTC; Published: 4-Dec-2008; DatasheetVersion: Mar-2004; PackageVersion: revD, Jun-2003; PackageReference: MTC16; Publisher: Altium Limited; PackageDescription: Molded TSSOP, Jedec, 5 x 4.4 x 0.9mm Body, 16 Lead, 0.65mm Pitch; RoHS: Y; PinCount: 16; DigiKeyPartNumber: LM5025MTC-ND; Code_JEDEC: MO-153-AB; ComponentLink1Description: LM5025 Datasheet; ComponentLink1URL: http://www.national.com/ds/LM/LM5025.pdf; ComponentLink2Description: LM5025 Web Page; ComponentLink2URL: http://www.national.com/pf/LM/LM5025.html; ComponentLink3Description: MTC16 Package Drawing; ComponentLink3URL: http://www.national.com/packaging/folders/mtc16.html
footprint MTC16_N (TSOP, 16-Leads, Body 5x4.4mm, Pitch 0.65mm, IPC Medium Density)
footprint MTC16_L (TSOP, 16-Leads, Body 5x4.4mm, Pitch 0.65mm, IPC High Density)
footprint MTC16_M (TSOP, 16-Leads, Body 5x4.4mm, Pitch 0.65mm, IPC Low Density)
pins: 1 VIN (power), 2 RAMP (in), 3 CS1 (in), 4 CS2 (in), 5 TIME (in), 6 REF (out), 7 VCC (power), 8 OUTA (out), 9 OUTB (out), 10 PGND (power), 11 AGND (power), 12 SS (in), 13 COMP, 14 RT (in), 15 SYNC (in), 16 UVLO (in)

## LM5025SD
designator U?
Active Clamp Voltage Mode PWM Controller; PartNumber: LM5025SD; Manufacturer: National Semiconductor; CompType: Switcher; PackageTopMarking: NS*UZXYTT*5025SD; Published: 4-Dec-2008; DatasheetVersion: Mar-2004; PackageVersion: revA, May-2003; PackageReference: SDA16A; Publisher: Altium Limited; PackageDescription: LLP, Plastic, Dual, 5 x 5 x 0.8mm Body,16 Lead, 0.5mm Pitch, No Pullback; RoHS: Y; PinCount: 16; DigiKeyPartNumber: LM5025SDCT-ND; ComponentLink1Description: LM5025 Datasheet; ComponentLink1URL: http://www.national.com/ds/LM/LM5025.pdf; ComponentLink2Description: LM5025 Web Page; ComponentLink2URL: http://www.national.com/pf/LM/LM5025.html; ComponentLink3Description: SDA16A Package Drawing; ComponentLink3URL: http://www.national.com/packaging/folders/sda16a.html
footprint SDA16A (SON, 16-Leads, Body 5x5mm, Pitch 0.5mm, NSC Recommended)
pins: 1 VIN (power), 2 RAMP (in), 3 CS1 (in), 4 CS2 (in), 5 TIME (in), 6 REF (out), 7 VCC (power), 8 OUTA (out), 9 OUTB (out), 10 PGND (power), 11 AGND (power), 12 SS (in), 13 COMP, 14 RT (in), 15 SYNC (in), 16 UVLO (in), 17 EP (power)

## LM5026MT
designator U?
Active Clamp Current Mode PWM Controller; PartNumber: LM5026MT; Manufacturer: National Semiconductor; CompType: Switcher; PackageTopMarking: NSUZXYTT*LM5026*MT; Published: 4-Dec-2008; DatasheetVersion: Jan-2006; PackageVersion: revD, Jun-2003; PackageReference: MTC16; Publisher: Altium Limited; PackageDescription: Molded TSSOP, Jedec, 5 x 4.4 x 0.9mm Body, 16 Lead, 0.65mm Pitch; RoHS: Y; PinCount: 16; DigiKeyPartNumber: LM5026MT-ND; Code_JEDEC: MO-153-AB; ComponentLink1Description: LM5026 Datasheet; ComponentLink1URL: http://www.national.com/ds/LM/LM5026.pdf; ComponentLink2Description: LM5026 Web Page; ComponentLink2URL: http://www.national.com/pf/LM/LM5026.html; ComponentLink3Description: MTC16 Package Drawing; ComponentLink3URL: http://www.national.com/packaging/folders/mtc16.html
footprint MTC16_N (TSOP, 16-Leads, Body 5x4.4mm, Pitch 0.65mm, IPC Medium Density)
footprint MTC16_L (TSOP, 16-Leads, Body 5x4.4mm, Pitch 0.65mm, IPC High Density)
footprint MTC16_M (TSOP, 16-Leads, Body 5x4.4mm, Pitch 0.65mm, IPC Low Density)
pins: 1 VIN (power), 2 UVLO (in), 3 CS (in), 4 RES (in), 5 TIME (in), 6 REF (out), 7 VCC (power), 8 OUTA (out), 9 OUTB (out), 10 PGND (power), 11 AGND (power), 12 SS (in), 13 COMP, 14 RT (in), 15 SYNC (in), 16 DCL (in)

## LM5026SD
designator U?
Active Clamp Current Mode PWM Controller; PartNumber: LM5026SD; Manufacturer: National Semiconductor; CompType: Switcher; PackageTopMarking: NS*UZXYTT*5026SD; Published: 4-Dec-2008; DatasheetVersion: Jan-2006; PackageVersion: revA, May-2003; PackageReference: SDA16A; Publisher: Altium Limited; PackageDescription: LLP, Plastic, Dual, 5 x 5 x 0.8mm Body,16 Lead, 0.5mm Pitch, No Pullback; RoHS: Y; PinCount: 16; DigiKeyPartNumber: LM5026SDCT-ND; ComponentLink1Description: LM5026 Datasheet; ComponentLink1URL: http://www.national.com/ds/LM/LM5026.pdf; ComponentLink2Description: LM5026 Web Page; ComponentLink2URL: http://www.national.com/pf/LM/LM5026.html; ComponentLink3Description: SDA16A Package Drawing; ComponentLink3URL: http://www.national.com/packaging/folders/sda16a.html
footprint SDA16A (SON, 16-Leads, Body 5x5mm, Pitch 0.5mm, NSC Recommended)
pins: 1 VIN (power), 2 UVLO (in), 3 CS (in), 4 RES (in), 5 TIME (in), 6 REF (out), 7 VCC (power), 8 OUTA (out), 9 OUTB (out), 10 PGND (power), 11 AGND (power), 12 SS (in), 13 COMP, 14 RT (in), 15 SYNC (in), 16 DCL (in), 17 EP (power)

## LM5027MH
designator U?
Voltage Mode Active Clamp Controller; PartNumber: LM5027MH; Manufacturer: National Semiconductor; CompType: Switcher; PackageTopMarking: NSUZXYTT*LM5027*MH; PowerWise: Y; Published: 9-Oct-2009; DatasheetVersion: Sep-2009; PackageVersion: revC, Jul-2006; PackageReference: MXA20A; Publisher: Altium Limited; PackageDescription: Molded TSSOP, Jedec, 6.5 x 4.4 x 0.9mm Body, 20 Lead, 0.65mm Pitch, Exposed Pad; RoHS: Y; PinCount: 20; DigiKeyPartNumber: LM5027MH-ND; Code_JEDEC: MO-153-ACT; ComponentLink1Description: LM5027 Datasheet; ComponentLink1URL: http://www.national.com/ds/LM/LM5027.pdf; ComponentLink2Description: LM5027 Web Page; ComponentLink2URL: http://www.national.com/pf/LM/LM5027.html; ComponentLink3Description: MXA20A Package Page; ComponentLink3URL: http://www.national.com/packaging/folders/mxa20a.html
footprint MXA20A_N (TSOP, 20-Leads, Body 6.5x4.4mm, Pitch 0.65mm, Exposed Pad, IPC Medium Density)
footprint MXA20A_L (TSOP, 20-Leads, Body 6.5x4.4mm, Pitch 0.65mm, Exposed Pad, IPC High Density)
footprint MXA20A_M (TSOP, 20-Leads, Body 6.5x4.4mm, Pitch 0.65mm, Exposed Pad, IPC Low Density)
pins: 1 VIN (power), 2 RAMP (in), 3 TIME3 (in), 4 TIME2 (in), 5 TIME1 (in), 6 AGND (power), 7 RT (in), 8 COMP (in), 9 REF (out), 10 OUTB (out), 11 OUTA (out), 12 OUTSR (out), 13 PGND (power), 14 VCC (power), 15 CS (in), 16 SS (in), 17 RES (in), 18 SSSR (in), 19 OTP (in), 20 UVLO (in), 21 EP (power)

## LM5030MM
designator U?
100V Push-Pull Current Mode PWM Controller; PartNumber: LM5030MM; Manufacturer: National Semiconductor; CompType: Switcher; PackageTopMarking: ZXTT*S73B; Published: 4-Dec-2008; DatasheetVersion: Mar-2005; PackageVersion: revB, Jul-2003; PackageReference: MUB10A; Publisher: Altium Limited; PackageDescription: Mini-SO, Molded, .118 x .118 x .034in Body, 10 Lead, .0197in Pitch; RoHS: Y; PinCount: 10; DigiKeyPartNumber: LM5030MMCT-ND; Code_JEDEC: MO-187-BA; ComponentLink1Description: LM5030 Datasheet; ComponentLink1URL: http://www.national.com/ds/LM/LM5030.pdf; ComponentLink2Description: LM5030 Web Page; ComponentLink2URL: http://www.national.com/pf/LM/LM5030.html; ComponentLink3Description: MUB10A Package Drawing; ComponentLink3URL: http://www.national.com/packaging/folders/mub10a.html
footprint MUB10A_N (TSSOP, 10-Leads, Body 3x3mm, Pitch 0.5mm, IPC Medium Density)
footprint MUB10A_L (TSSOP, 10-Leads, Body 3x3mm, Pitch 0.5mm, IPC High Density)
footprint MUB10A_M (TSSOP, 10-Leads, Body 3x3mm, Pitch 0.5mm, IPC Low Density)
pins: 1 VIN (power), 2 VFB (in), 3 COMP, 4 VCC (power), 5 OUT1 (out), 6 OUT2 (out), 7 GND (power), 8 CS (in), 9 RT (in), 10 SS (in)

## LM5030SD
designator U?
100V Push-Pull Current Mode PWM Controller; PartNumber: LM5030SD; Manufacturer: National Semiconductor; CompType: Switcher; PackageTopMarking: NS*UZXYTT*5030SD; Published: 4-Dec-2008; DatasheetVersion: Mar-2005; PackageVersion: revA, May-2003; PackageReference: SDC10A; Publisher: Altium Limited; PackageDescription: LLP, Plastic, Dual, 4 x 4 x 0.8mm Body, 10 Lead, 0.8mm Pitch, No Pullback; RoHS: Y; PinCount: 10; DigiKeyPartNumber: LM5030SDCT-ND; ComponentLink1Description: LM5030 Datasheet; ComponentLink1URL: http://www.national.com/ds/LM/LM5030.pdf; ComponentLink2Description: LM5030 Web Page; ComponentLink2URL: http://www.national.com/pf/LM/LM5030.html; ComponentLink3Description: SDC10A Package Drawing; ComponentLink3URL: http://www.national.com/packaging/folders/sdc10a.html
footprint SDC10A (SON, 10-Leads, Body 4x4 mm, Pitch 0.8mm, NSC Recommended)
pins: 1 VIN (power), 2 VFB (in), 3 COMP, 4 VCC (power), 5 OUT1 (out), 6 OUT2 (out), 7 GND (power), 8 CS (in), 9 RT (in), 10 SS (in), 11 DAP (power)

## LM5032MTC
designator U?
High Voltage Dual Interleaved Current Mode Controller; PartNumber: LM5032MTC; Manufacturer: National Semiconductor; CompType: Switcher; PackageTopMarking: NSUZXYTT*LM5032*MTC; Published: 4-Dec-2008; DatasheetVersion: Mar-2005; PackageVersion: revD, Jun-2003; PackageReference: MTC16; Publisher: Altium Limited; PackageDescription: Molded TSSOP, Jedec, 5 x 4.4 x 0.9mm Body, 16 Lead, 0.65mm Pitch; RoHS: Y; PinCount: 16; DigiKeyPartNumber: LM5032MTC-ND; Code_JEDEC: MO-153-AB; ComponentLink1Description: LM5032 Datasheet; ComponentLink1URL: http://www.national.com/ds/LM/LM5032.pdf; ComponentLink2Description: LM5032 Web Page; ComponentLink2URL: http://www.national.com/pf/LM/LM5032.html; ComponentLink3Description: MTC16 Package Drawing; ComponentLink3URL: http://www.national.com/packaging/folders/mtc16.html
footprint MTC16_N (TSOP, 16-Leads, Body 5x4.4mm, Pitch 0.65mm, IPC Medium Density)
footprint MTC16_L (TSOP, 16-Leads, Body 5x4.4mm, Pitch 0.65mm, IPC High Density)
footprint MTC16_M (TSOP, 16-Leads, Body 5x4.4mm, Pitch 0.65mm, IPC Low Density)
pins: 1 VIN (power), 2 COMP1, 3 CS1 (in), 4 SS1 (in), 5 UVLO (in), 6 VCC (power), 7 OUT1 (out), 8 GND1 (power), 9 GND2 (power), 10 OUT2 (out), 11 RES (in), 12 SS2 (in), 13 CS2 (in), 14 COMP2, 15 DCL (in), 16 RT/SYNC (in)